# EAGLE library part BL600 (library smart_irrigation)
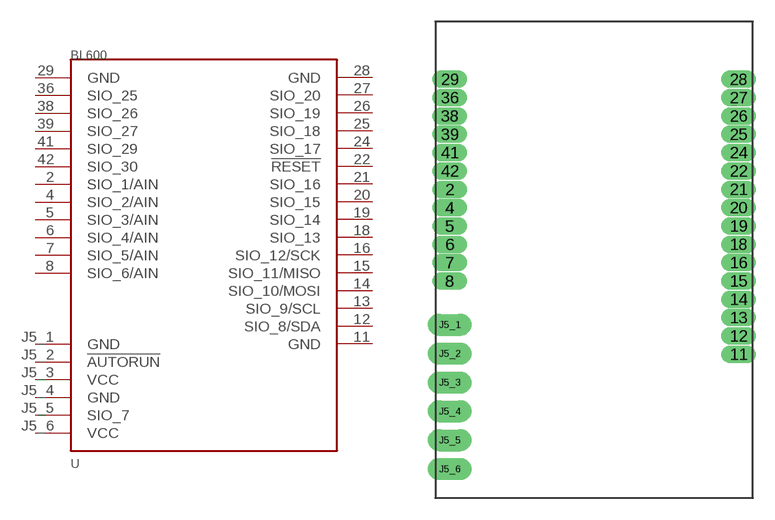
[diagram p0: symbol with the pads of BOB; footprint BOB]

Designator prefix U

## BL600  [BOB]
2  SIO_1/AIN
4  SIO_2/AIN
5  SIO_3/AIN
6  SIO_4/AIN
7  SIO_5/AIN
8  SIO_6/AIN
11  GND
12  SIO_8/SDA
13  SIO_9/SCL
14  SIO_10/MOSI
15  SIO_11/MISO
16  SIO_12/SCK
18  SIO_13
19  SIO_14
20  SIO_15
21  SIO_16
22  !RESET
24  SIO_17
25  SIO_18
26  SIO_19
27  SIO_20
28  GND
29  GND  pwr
36  SIO_25
38  SIO_26
39  SIO_27
41  SIO_29
42  SIO_30
J5_1  GND  pwr
J5_2  !AUTORUN
J5_3  VCC  pwr
J5_4  GND  pwr
J5_5  SIO_7
J5_6  VCC  pwr

## Footprint BOB (pad centres in mm)
drill 0.7 long: 2 -10,4.38; 4 -10,3.11; 5 -10,1.84; 6 -10,0.57; 7 -10,-0.7; 8 -10,-1.97; 11 10,-7.05; 12 10,-5.78; 13 10,-4.51; 14 10,-3.24; 15 10,-1.97; 16 10,-0.7; 18 10,0.57; 19 10,1.84; 20 10,3.11; 21 10,4.38; 22 10,5.65; 24 10,6.92; 25 10,8.19; 26 10,9.46; 27 10,10.73; 28 10,12; 29 -10,12; 36 -10,10.73; 38 -10,9.46; 39 -10,8.19; 41 -10,6.92; 42 -10,5.65
drill 1 long: J5_1 -10,-5; J5_2 -10,-7; J5_3 -10,-9; J5_4 -10,-11; J5_5 -10,-13; J5_6 -10,-15